# Altium schematic symbol library Transistors.SchLib: 20 symbols
Pins are listed as number, name and electrical type; pins without a type are passive.

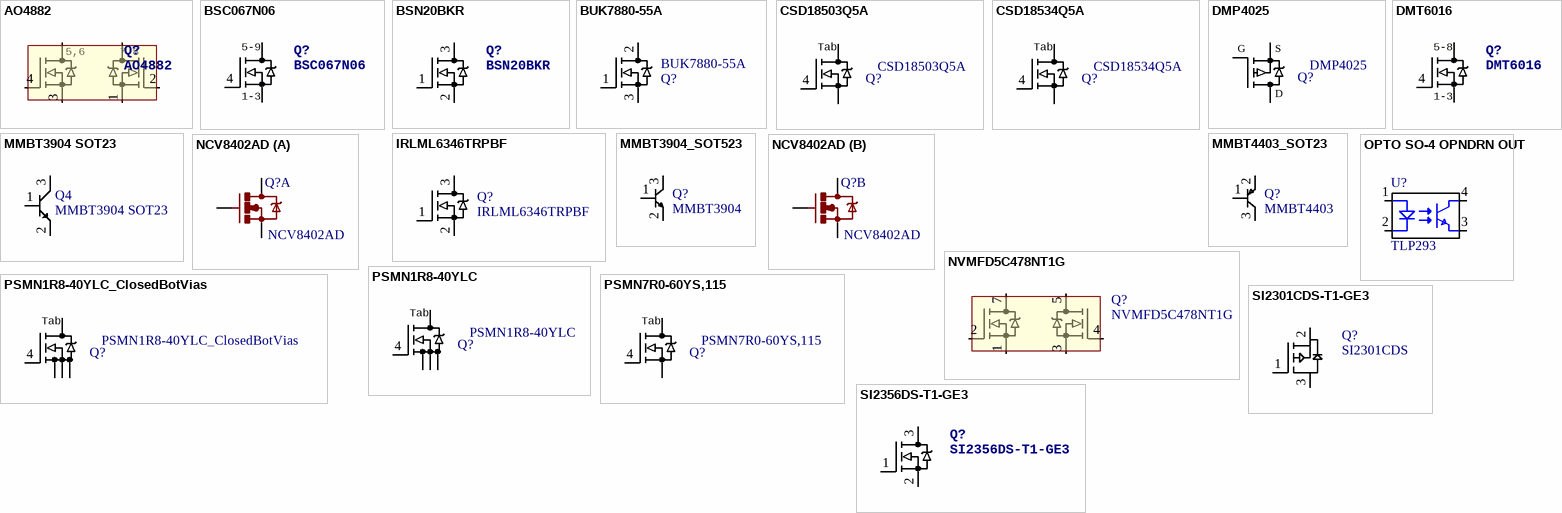
[diagram p0: symbols AO4882 to SI2356DS-T1-GE3]

## AO4882
designator Q?
MOSFET 2N-CH 40V 8A 8SOIC; MANUFACTURER: Alpha & Omega Semiconductor Inc.; PART DESCRIPTION: Mosfet Array 2 N-Channel (Dual) 40V 8A 2W Surface Mount 8-SOIC; TOLERANCE: -NA-; EE_SPEC: 40V 8A; MANUFACTURER #: AO4882; DISTRIBUTOR: Digikey; VALUE: AO4882
footprint SOIC8_DualFet_1 (SOIC, 8-Leads, Body 4.90x3.90mm, Pitch 1.27mm, IPC Medium Density)
pins: 1 S2, 2 G2, 3 S1, 4 G1, D1, D2
text: 5,6; 7,8

## BSC067N06
designator Q?
MOSFET N-CH 60V 50A TDSON-8; MANUFACTURER: Infineon; MANUFACTURER #: BSC067N06LS3GATMA1; PART DESCRIPTION: N-Channel 60V 15A (Ta), 50A (Tc) 2.5W (Ta), 69W (Tc) Surface Mount PG-TDSON-8; TOLERANCE: -NA-; EE_SPEC: 60Vds 50A 2.2Vgs(th) 6.7mOhm@10V; DISTRIBUTOR #: BSC067N06LS3GATMA1CT-ND; DISTRIBUTOR: Digikey; VALUE: BSC067N06
footprint PG-TDSON-8
pins: 1 S, 2 S, 3 S, 4 G, 5 D, 6 D, 7 D, 8 D, 9 D
text: 5-9; 1-3

## BSN20BKR
designator Q?
MOSFET N-CH 60V 0.265A SOT-23; MANUFACTURER: Nexperia; PART DESCRIPTION: N-Channel 60V 265mA (Ta) 310mW (Ta) Surface Mount TO-236AB (SOT23); TOLERANCE: -NA-; VALUE: N-FET; EE_SPEC: 30V 3.4A 63mOhm; MANUFACTURER #: BSN20BKR; DISTRIBUTOR #: 1727-2341-2-ND; DISTRIBUTOR: Digikey; PART: BSN20BKR
footprint SOT23-3
pins: 1 G, 2 S, 3 D

## BUK7880-55A
designator Q?
MOSFET N-CH 55V 7A SOT223; MANUFACTURER: TI; MANUFACTURER #: BUK7880-55A/CUX; PART DESCRIPTION: N-Channel 55V 7A (Tc) 8W (Tc) Surface Mount SC-73; EE_SPEC: 40V 100A; VALUE: BUK7880-55A
footprint SOT223 (SOT223 (SC-73)); pin to pad 2>2+TAB
pins: 1 G, 2 D, 3 S

## CSD18503Q5A
designator Q?
MOSFET N-CH 40V 100A 8VSON; MANUFACTURER: TI; VALUE: N-FET; MANUFACTURER #: CSD18503Q5A; PART DESCRIPTION: MOSFET N-CH 40V 100A 8VSON; EE_SPEC: 40V 100A
footprint SOT669_Universal
pins: 1 S, 2 S, 3 S, 4 G, TAB D
text: Tab

## CSD18534Q5A
designator Q?
MOSFET N-CH 40V 100A 8VSON; MANUFACTURER: TI; PART DESCRIPTION: MOSFET N-CH 60V 13A 8VSON; VALUE: N-FET; MANUFACTURER #: CSD18534Q5A; PART: CSD18534Q5A
footprint SOT669_Universal
pins: 1 S, 2 S, 3 S, 4 G, TAB D
text: Tab

## DMP4025
designator Q?
MOSFET P-CH 40V 7.2A POWERDI3333; MANUFACTURER: Diodes Inc.; MANUFACTURER #: DMP4025SFGQ-13; PART DESCRIPTION: P-Channel 40V 7.2A (Ta) 810mW (Ta) Surface Mount PowerDI3333-8; TOLERANCE: -NA-; VALUE: P-FET; EE_SPEC: Vds=40V, Vth=1.8V, Vgs_max=-20V, Id=7.2A; DISTRIBUTOR #: DMP4025SFGQ-13DI-ND; DISTRIBUTOR: Digikey; PART: DMP4025
footprint POWERDI3333-8
pins: 1 S, 4 G, 5 D

## DMT6016
designator Q?
MOSFET N-CH 60V 9.2A 8-SOIC; MANUFACTURER: Diodes Inc; MANUFACTURER #: DMT6016LSS-13; PART DESCRIPTION: N-Channel 60V 9.2A (Ta) 1.5W (Ta) Surface Mount 8-SO; TOLERANCE: -NA-; VALUE: N-FET; EE_SPEC: 60Vds 9.2A 2.5Vgs(th) 18mOhm@10V; DISTRIBUTOR #: DMT6016LSS-13DITR-ND; DISTRIBUTOR: Digikey; PART: DMT6016
footprint SOIC8_Q (SOIC, 8-Leads, Body 4.90x3.90mm, Pitch 1.27mm, IPC Medium Density)
pins: 1 S, 4 G, 5 D
text: 5-8; 1-3

## IRLML6346TRPBF
designator Q?
Mosfet N-Channel 30V 3.4A 63mOhm; MANUFACTURER: Infineon; PART: MOSFET N-Chan 30V 3.4A; PART DESCRIPTION: N-Channel 30V 3.4A (Ta) 1.3W (Ta) Surface Mount Micro3™/SOT-23; TOLERANCE: -NA-; VALUE: N-FET; MANUFACTURER #: IRLML6346TRPBF; DISTRIBUTOR #: IRLML6346TRPBFTR-ND; DISTRIBUTOR: Digikey; EE_SPEC: 30V 3.4A 63mOhm
footprint SOT23-3
pins: 1 G, 2 S, 3 D

## MMBT3904 SOT23
designator Q4
TRANS GP SS NPN 40V SOT23; MANUFACTURER: On Semi; MANUFACTURER #: MMBT3904LT3G; PART: MMBT3904; DISTRIBUTOR: DIGI-KEY; DISTRIBUTOR #: MMBT3904LT3GOSCT-ND; COST: 0.0968 @ 25pcs
footprint SOT-23-3 (SOT23, 3-Leads, Body 2.92x2.37mm, Pitch 0.95mm, IPC High Density)
pins: 1, 2, 3

## MMBT3904_SOT523
designator Q?, comment MMBT3904
TRANS NPN 60V 0.2A SOT523; MANUFACTURER #: MMBT3904T-7-F; MANUFACTURER: Diodes Incorporated; PART: TRANS NPN 40V 0.2A SOT523; PART DESCRIPTION: Bipolar (BJT) Transistor NPN 40V 200mA 300MHz 150mW Surface Mount SOT-523; TOLERANCE: -NA-; EE_SPEC: 40V 0.2A; DISTRIBUTOR #: MMBT3904T-FDITR-ND; DISTRIBUTOR: Digikey; VALUE: NPN
footprint SOT523 SMALL
pins: 1 B (power), 2 E (power), 3 C (power)

## MMBT4403_SOT23
designator Q?, comment MMBT4403
TRANS PNP 40V 0.6A SOT23; MANUFACTURER #: MMBT4403LT1G; MANUFACTURER: On Semi; PART DESCRIPTION: Bipolar (BJT) Transistor PNP 40V 600mA 200MHz 300mW Surface Mount SOT-23-3 (TO-236); TOLERANCE: -NA-; EE_SPEC: 40V 0.6A 100hFE; DISTRIBUTOR #: MMBT4403LT1GOSTR-ND; DISTRIBUTOR: Digikey; PART: TRANS PNP 40V 0.6A SOT23; VALUE: PNP
footprint SOT23-3
pins: 1 B (power), 2 C (power), 3 E (power)

## NCV8402AD
designator Q?
footprint NCV8402AD-SOIC8
part A pins: 1 S, 2 G, 7 D
part B pins: 3 S, 4 G, 5 D

## NVMFD5C478NT1G
designator Q?
40V 17 MOHM T6 S08FL DUAL; MANUFACTURER: ON Semiconductor; PART DESCRIPTION: Mosfet Array 2 N-Channel (Dual) 40V 9.8A (Ta), 27A (Tc) 3.1W (Ta), 23W (Tc) Surface Mount 8-DFN (5x6) Dual Flag (SO8FL-Dual); TOLERANCE: -NA-; MANUFACTURER #: NVMFD5C478NT1G; DISTRIBUTOR #: NVMFD5C478NT1GOSCT-ND; DISTRIBUTOR: Digikey; VALUE: NVMFD5C478NT1G; EE_SPEC: 40V 17 MOHM
footprint SO8FL-Dual (DFN8 5x6, 1.26P Dual Flag) (SON, 8-Leads, Body 5.15x6.15mm, Pitch 1.27mm, IPC High Density)
pins: 1 S2, 2 G2, 3 S1, 4 G1, 5 D1, 7 D2

## OPTO SO-4 OPNDRN OUT
designator U?, comment TLP293
Optoisolator Transistor Output 3750Vrms 1 Channel 4-SO; MANUFACTURER #: TLP293(GB-TPL,E; MANUFACTURER: TOSHIBA; PART: Opto-Isolator 3.75kV; TOLERANCE: -NA-; VALUE: -NA-; EE_SPEC: 3.75kV Isolation; DISTRIBUTOR #: TLP293(GB-TPLETR-ND; DISTRIBUTOR: Digikey; PART DESCRIPTION: Optoisolator Transistor Output 3750Vrms 1 Channel 4-SO
footprint SO-4
pins: 1 A (power), 2 K (power), 3 E (power), 4 C (power)

## PSMN1R8-40YLC
designator Q?
MOSFET N-CH 40V 100A LFPAK; MANUFACTURER: Nexperia; MANUFACTURER #: PSMN1R8-40YLC,115; PART: N-FET; PART DESCRIPTION: N-Channel 40V 100A (Tc) 272W (Tc) Surface Mount LFPAK56, Power-SO8; TOLERANCE: -NA-; VALUE: N-FET; EE_SPEC: 40V 100A 1.8mOhm; DISTRIBUTOR #: 1727-1052-2-ND; DISTRIBUTOR: Digikey
footprint SOT669
pins: 1 S, 2 S, 3 S, 4 G, TAB D
text: Tab

## PSMN1R8-40YLC_ClosedBotVias
designator Q?
MOSFET N-CH 40V 100A LFPAK; MANUFACTURER: Nexperia; MANUFACTURER #: PSMN1R8-40YLC,115; PART DESCRIPTION: N-Channel 40V 100A (Tc) 272W (Tc) Surface Mount LFPAK56, Power-SO8; TOLERANCE: -NA-; VALUE: N-FET; EE_SPEC: 40V 100A 1.8mOhm; DISTRIBUTOR #: 1727-1052-2-ND; DISTRIBUTOR: Digikey
footprint SOT669
pins: 1 S, 2 S, 3 S, 4 G, TAB D
text: Tab

## PSMN7R0-60YS,115
designator Q?
Mosfet N-channel 60V 356A 117W 9.3mOhms; MANUFACTURER: NXP; PART: MOSFET N-Chan 60V 89A; PART DESCRIPTION: N-Channel 60V 89A (Tc) 117W (Tc) Surface Mount LFPAK, Power-SO8; TOLERANCE: -NA-; VALUE: N-FET; EE_SPEC: 60V 89A 6.4mOhm; MANUFACTURER #: PSMN7R0-60YS,115; DISTRIBUTOR #: 568-5596-2-ND; DISTRIBUTOR: Digikey
footprint SOT669
pins: 1 S, 2 S, 3 S, 4 G, TAB D
text: Tab

## SI2301CDS-T1-GE3
designator Q?, comment SI2301CDS
MOSFET P-CH 20V 3.1A SOT23-3; MANUFACTURER: Vishay; MANUFACTURER #: SI2301CDS-T1-GE3; PART DESCRIPTION: P-Channel 20V 3.1A (Tc) 860mW (Ta), 1.6W (Tc) Surface Mount SOT-23-3 (TO-236); TOLERANCE: -NA-; VALUE: N-FET; EE_SPEC: 30V 3.1A 112mOhm; PART: SI2301CDS-T1-GE3
footprint SOT23-3
pins: 1 G, 2 S, 3 D (power) "1"

## SI2356DS-T1-GE3
designator Q?
MOSFET N-CH 40V 4.3A SOT-23; MANUFACTURER: Vishay Siliconix; PART DESCRIPTION: N-Channel 4.3A (Tc) 960mW (Ta), 1.7W (Tc) Surface Mount TO-236; TOLERANCE: -NA-; VALUE: N-FET; EE_SPEC: 40V 4.3A 51mOhm; MANUFACTURER #: SI2356DS-T1-GE3; DISTRIBUTOR #: SI2356DS-T1-GE3CT-ND; DISTRIBUTOR: Digikey; PART: MOSFET N-CH 40V 4.3A SOT-23
footprint SOT23_PWR
pins: 1 G, 2 S, 3 D